# EAGLE library part ADC128S022CIMTX/NOPB (library texas)
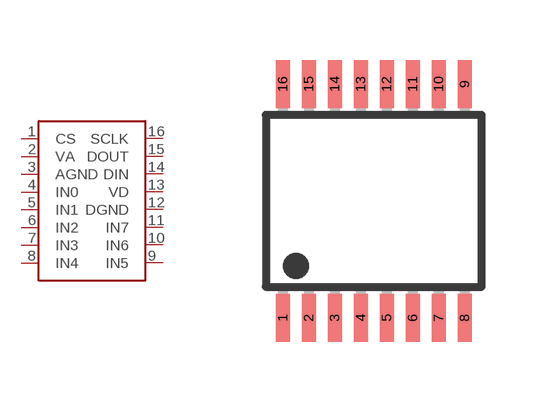
[diagram p128: symbol with the pads of TSSOP16; footprint TSSOP16]

Designator prefix -

## ADC128S022CIMTX/NOPB  [TSSOP16]
1  CS
2  VA
3  AGND
4  IN0
5  IN1
6  IN2
7  IN3
8  IN4
9  IN5
10  IN6
11  IN7
12  DGND
13  VD
14  DIN
15  DOUT
16  SCLK

## Footprint TSSOP16 (pad centres in mm)
PW (R-PDSO-G8) Source: http://focus.ti.com/lit/ds/symlink/ads1271.pdf
smd 0.35 x 1.2: 1 -2.275,-2.925; 2 -1.625,-2.925; 3 -0.975,-2.925; 4 -0.325,-2.925; 5 0.325,-2.925; 6 0.975,-2.925; 7 1.625,-2.925; 8 2.275,-2.925; 9 2.275,2.925; 10 1.625,2.925; 11 0.975,2.925; 12 0.325,2.925; 13 -0.325,2.925; 14 -0.975,2.925; 15 -1.625,2.925; 16 -2.275,2.925